# Altium schematic symbol library DMP3098LSD-13.SchLib: 1 symbol
Pins are listed as number, name and electrical type; pins without a type are passive.

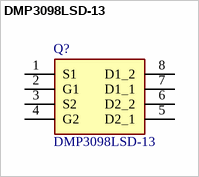
[diagram p0: symbol DMP3098LSD-13]

## DMP3098LSD-13
designator Q?
MOSFET PMOS-DUAL; Manufacturer_Name: Diodes Incorporated; Geometry.Height: 1.75mm; Mouser Part Number: 621-DMP3098LSD-13; Mouser Price/Stock: https://www.mouser.co.uk/ProductDetail/Diodes-Incorporated/DMP3098LSD-13?qs=oUsD4qhOtFxafARAi3NzqQ%3D%3D; Manufacturer_Part_Number: DMP3098LSD-13; Datasheet Link: https://www.diodes.com//assets/Datasheets/ds31448.pdf
footprint SOIC127P600X175-8N
pins: 1 S1, 2 G1, 3 S2, 4 G2, 5 D2_1, 6 D2_2, 7 D1_1, 8 D1_2